# Altium footprint library [1]PIFProject_LibPCB_TrongThao.PcbLib: 7 footprints
Each footprint in its own frame and in the unit in brackets; x right, y up, seen from the top. Pads: shape width x height; smd on the part's side, far side on the other; paste and mask are expansions set on the pad; w line width, h text height; cw(c..) or ccw(c..) is an arc to the next point about the centre after c.
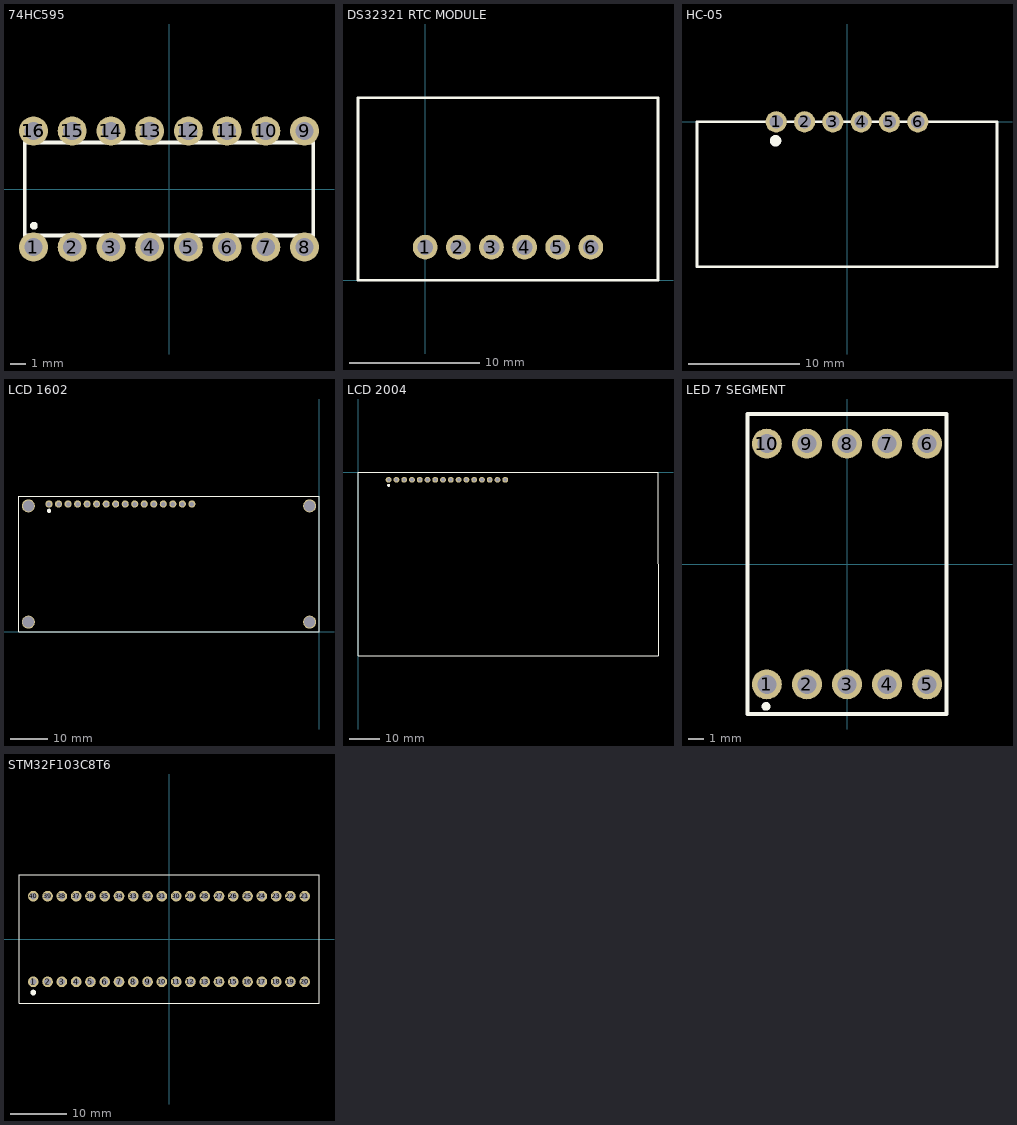
[diagram p0: the footprints below, top view; thin cyan lines are the x and y axes]

## 74HC595 [mm]
pads (17):
  round 1.9 hole 1.2: 1(-8.89,-3.81) 2(-6.35,-3.81) 3(-3.81,-3.81) 4(-1.27,-3.81) 5(1.27,-3.81) 6(3.81,-3.81) 7(6.35,-3.81) 8(8.89,-3.81) 9(8.89,3.81) 10(6.35,3.81) 11(3.81,3.81) 12(1.27,3.81) 13(-1.27,3.81) 14(-3.81,3.81) 15(-6.35,3.81) 16(-8.89,3.81) 16(-8.89,3.81)
Top Overlay:
  circle w0.254: c-8.865,-2.413 r0.127
  lines w0.254: -9.461,-3.048 9.461,-3.048 9.461,3.048 -9.461,3.048 -9.461,-3.048
3D body "74hc595.stp": height 4, standoff -1.6, extent -9.551,-3.801 9.449,3.699

## DS32321 RTC MODULE [mm]
pads (6):
  round 1.9 hole 1.2: 1(0,2.54) 2(2.54,2.54) 3(5.08,2.54) 4(7.62,2.54) 5(10.16,2.54) 6(12.7,2.54)
Top Overlay:
  lines w0.2: -5.15,0 -5.15,14 17.85,14 17.85,0 -5.15,0
3D body "DS3231 RTC.step": height 39.3, standoff -5.45, extent -5.02,2.1 17.78,15.63

## HC-05 [mm]
pads (6):
  round 1.9 hole 1.2: 1(-6.35,0) 2(-3.81,0) 3(-1.27,0) 4(1.27,0) 5(3.81,0) 6(6.35,0)
Top Overlay:
  circle w0.508: c-6.401,-1.702 r0.254
  lines w0.254: -13.45,-13 13.45,-13 13.45,0 -13.45,0 -13.45,-13
3D body "HC-05.SLDPRT": height 37.5, standoff -5.08, extent -7.849,-6.425 8.151,0.125

## LCD 1602 [mm]
pads (20):
  round 1.9 hole 1.2: 1(-72,34) 2(-69.46,34) 3(-66.92,34) 4(-64.38,34) 5(-61.84,34) 6(-59.3,34) 7(-56.76,34) 8(-54.22,34) 9(-51.68,34) 10(-49.14,34) 11(-46.6,34) 12(-44.06,34) 13(-41.52,34) 14(-38.98,34) 15(-36.44,34) 16(-33.9,34)
  round 3.5 hole 3: ""(-77.5,2.5) ""(-77.5,33.5) ""(-2.5,2.5) ""(-2.5,33.5)
Top Overlay:
  circle w0.508: c-71.984,32.182 r0.325
  lines w0.254: -80,0 0,0 0,36 -80,36 -80,0
3D body "LCD_16X2.STEP": height 11.4, standoff -5.5, extent -79.883,0.065 0.117,35.865

## LCD 2004 [mm]
pads (16):
  round 1.9 hole 1.2: 1(10,-2.5) 2(12.54,-2.5) 3(15.08,-2.5) 4(17.62,-2.5) 5(20.16,-2.5) 6(22.7,-2.5) 7(25.24,-2.5) 8(27.78,-2.5) 9(30.32,-2.5) 10(32.86,-2.5) 11(35.4,-2.5) 12(37.94,-2.5) 13(40.48,-2.5) 14(43.02,-2.5) 15(45.56,-2.5) 16(48.1,-2.5)
Top Overlay:
  lines w0.254: 0,-60 0,0 98,0 98,-60 0,-60
  lines w0.508: 10.279,-4.329 cw(c10.025,-4.329) 10.279,-4.32
3D body "QP5522 Jaycar 20x4 LCD Module v14.step": height 13.54, standoff -6, extent 0.174,-59.766 98.174,0.234

## LED 7 SEGMENT [mm]
pads (11):
  round 1.9 hole 1.2: 1(-5.08,-7.62) 2(-2.54,-7.62) 3(0,-7.62) 4(2.54,-7.62) 5(5.08,-7.62) 6(5.08,7.62) 7(2.54,7.62) 8(0,7.62) 9(-2.54,7.62) 10(-5.08,7.62) 10(-5.08,7.62)
Top Overlay:
  circle w0.254: c-5.131,-9.017 r0.148
  lines w0.254: -6.3,-9.5 -6.3,9.5 6.3,9.5 6.3,-9.5 -6.3,-9.5

## STM32F103C8T6 [mm] "Dimension 53.34x15.24 mm"
pads (40):
  round 1.9 hole 1.2: 1(-24.13,-7.62) 2(-21.59,-7.62) 3(-19.05,-7.62) 4(-16.51,-7.62) 5(-13.97,-7.62) 6(-11.43,-7.62) 7(-8.89,-7.62) 8(-6.35,-7.62) 9(-3.81,-7.62) 10(-1.27,-7.62) 11(1.27,-7.62) 12(3.81,-7.62) 13(6.35,-7.62) 14(8.89,-7.62) 15(11.43,-7.62) 16(13.97,-7.62) 17(16.51,-7.62) 18(19.05,-7.62) 19(21.59,-7.62) 20(24.13,-7.62) 21(24.13,7.62) 22(21.59,7.62) 23(19.05,7.62) 24(16.51,7.62) 25(13.97,7.62) 26(11.43,7.62) 27(8.89,7.62) 28(6.35,7.62) 29(3.81,7.62) 30(1.27,7.62) 31(-1.27,7.62) 32(-3.81,7.62) 33(-6.35,7.62) 34(-8.89,7.62) 35(-11.43,7.62) 36(-13.97,7.62) 37(-16.51,7.62) 38(-19.05,7.62) 39(-21.59,7.62) 40(-24.13,7.62)
Top Overlay:
  circle w0.508: c-24.13,-9.525 r0.254
  lines w0.152: -26.67,-11.43 -26.67,11.43 26.67,11.43 26.67,-11.43 -26.67,-11.43
3D body "STM32F103C8T6_Blue_Pill_v6.step": height 12.31, standoff -5.96, extent -30,-11.43 27.56,11.43